# Altium footprint library V_2.PcbLib: 4 footprints
Each footprint in its own frame and in the unit in brackets; x right, y up, seen from the top. Pads: shape width x height; smd on the part's side, far side on the other; paste and mask are expansions set on the pad; w line width, h text height; cw(c..) or ccw(c..) is an arc to the next point about the centre after c.
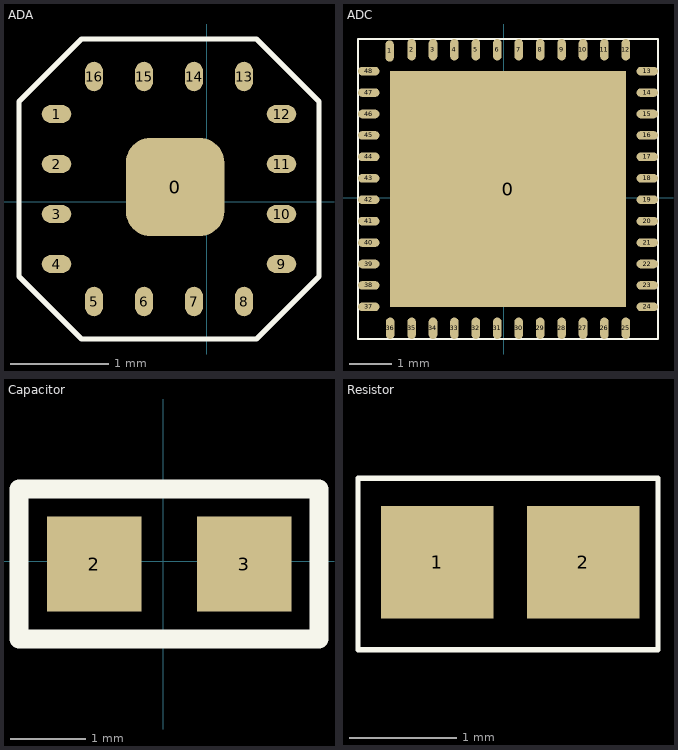
[diagram p0: the footprints below, top view; thin cyan lines are the x and y axes]

## ADA [mm]
pads (17):
  rrect50% 1x1 smd: 0(-0.319,0.147)
  oval 0.3x0.18 smd: 1(-1.524,0.889) 2(-1.524,0.381) 3(-1.524,-0.127) 4(-1.524,-0.635) 9(0.762,-0.635) 10(0.762,-0.127) 11(0.762,0.381) 12(0.762,0.889)
  oval 0.18x0.3 smd: 5(-1.143,-1.016) 6(-0.635,-1.016) 7(-0.127,-1.016) 8(0.381,-1.016) 13(0.381,1.27) 14(-0.127,1.27) 15(-0.635,1.27) 16(-1.143,1.27)
Top Overlay:
  lines w0.05: -1.905,-0.762 -1.905,1.016 -1.27,1.651 0.508,1.651 1.143,1.016 1.143,-0.762 0.508,-1.397 -1.27,-1.397 -1.905,-0.762

## ADC [mm]
pads (49):
  rect 5.5x5.5 smd: 0(0.096,0.208)
  oval 0.2x0.5 smd: 1(-2.667,3.429) 2(-2.154,3.458) 3(-1.654,3.458) 4(-1.154,3.458) 5(-0.654,3.458) 6(-0.154,3.458) 7(0.346,3.458) 8(0.846,3.458) 9(1.346,3.458) 10(1.846,3.458) 11(2.346,3.458) 12(2.846,3.458) 25(2.846,-3.042) 26(2.346,-3.042) 27(1.846,-3.042) 28(1.346,-3.042) 29(0.846,-3.042) 30(0.346,-3.042) 31(-0.154,-3.042) 32(-0.654,-3.042) 33(-1.154,-3.042) 34(-1.654,-3.042) 35(-2.154,-3.042) 36(-2.654,-3.042)
  oval 0.5x0.2 smd: 13(3.346,2.958) 14(3.346,2.458) 15(3.346,1.958) 16(3.346,1.458) 17(3.346,0.958) 18(3.346,0.458) 19(3.346,-0.042) 20(3.346,-0.542) 21(3.346,-1.042) 22(3.346,-1.542) 23(3.346,-2.042) 24(3.346,-2.542) 37(-3.154,-2.542) 38(-3.154,-2.042) 39(-3.154,-1.542) 40(-3.154,-1.042) 41(-3.154,-0.542) 42(-3.154,-0.042) 43(-3.154,0.458) 44(-3.154,0.958) 45(-3.154,1.458) 46(-3.154,1.958) 47(-3.154,2.458) 48(-3.154,2.958)
Top Overlay:
  lines w0.05: -3.404,-3.292 3.596,-3.292 3.596,3.708 -3.404,3.708 -3.404,-3.292

## Capacitor [mm]
pads (2):
  rect 1.26x1.27 smd: 2(-0.921,-0.036) 3(1.079,-0.036)
Top Overlay:
  lines w0.254: -1.921,-1.036 -1.921,0.964 2.079,0.964 2.079,-1.036 -1.921,-1.036

## Resistor [mm]
pads (2):
  rect 1.05x1.05 smd: 1(1.877,5.723) 2(3.237,5.723)
Top Overlay:
  lines w0.05: 1.137,4.908 3.937,4.908 3.937,6.508 1.137,6.508 1.137,4.908